# Altium footprint library PyESPCar_Z1.PcbLib: 22 footprints (part 1 of 2)
Each footprint in its own frame and in the unit in brackets; x right, y up, seen from the top. Pads: shape width x height; smd on the part's side, far side on the other; paste and mask are expansions set on the pad; w line width, h text height; cw(c..) or ccw(c..) is an arc to the next point about the centre after c.
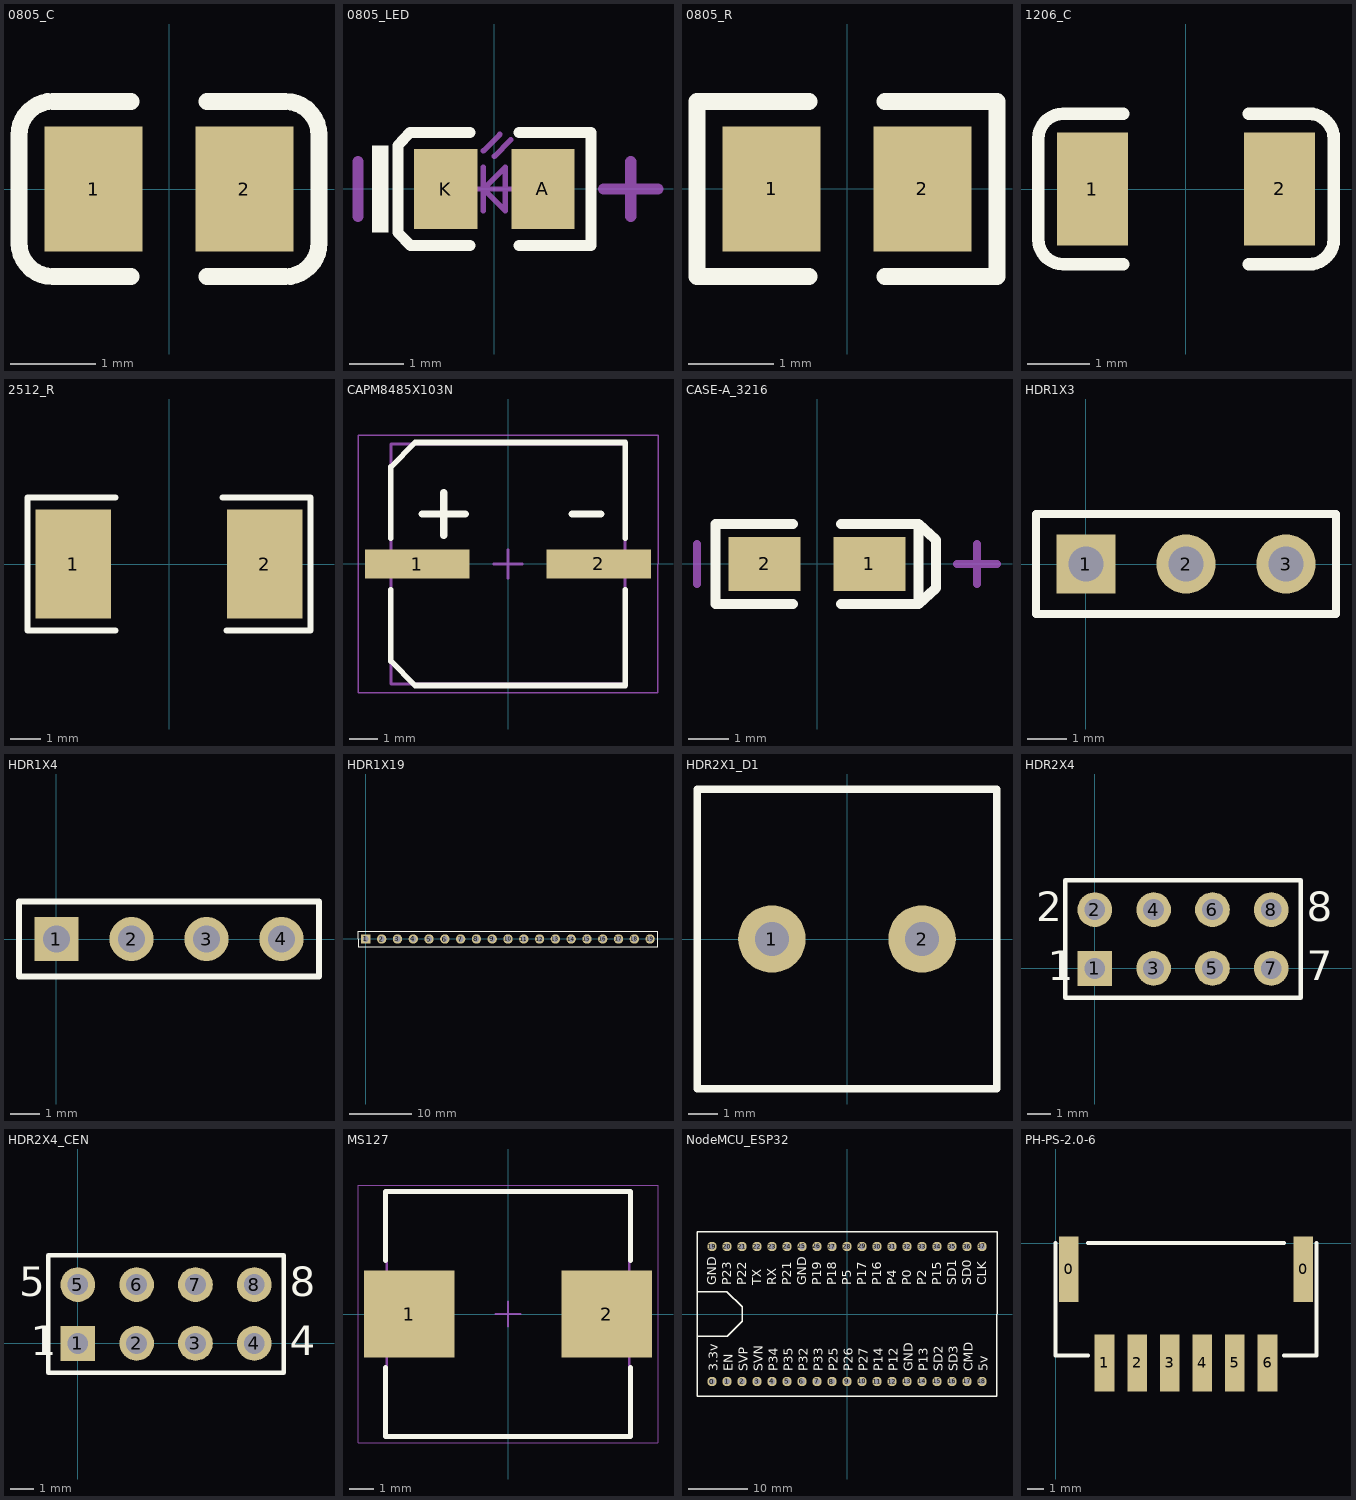
[diagram p0: the footprints below, top view; thin cyan lines are the x and y axes]

## 0805_C [mm]
pads (2):
  rect 1.16x1.47 smd: 1(-0.89,0) 2(0.89,0)
Top Overlay:
  lines w0.2: -0.45,-1.035 -1.37,-1.035 cw(c-1.37,-0.635) -1.77,-0.635 -1.77,0.635 cw(c-1.37,0.635) -1.37,1.035 -0.45,1.035 ; 0.45,-1.035 1.37,-1.035 ccw(c1.37,-0.635) 1.77,-0.635 1.77,0.635 ccw(c1.37,0.635) 1.37,1.035 0.45,1.035
3D body "User Library-0805 SMD Capacitor.STEP": height 0.77, standoff -0.01, extent -0.999,-0.625 1.001,0.625

## 0805_LED [mm]
pads (2):
  rect 1.16x1.47 smd: A(0.89,0) K(-0.89,0)
Top Overlay:
  rectangle: -2.245,-0.8 -1.945,0.8
  lines w0.2: -0.45,-1.035 -1.535,-1.035 -1.77,-0.8 -1.77,0.8 -1.55,1.035 -0.45,1.035 ; 0.45,-1.035 1.77,-1.035 1.77,1.035 0.45,1.035
Mechanical 13:
  lines w0.1: -0.4,0 0.4,0 ; -0.2,-0.4 -0.2,0.4 ; -0.2,0.7 0.1,1 ; 0,0.6 0.3,0.9 ; -0.2,0 0.2,0.4 0.2,-0.4 -0.2,0
Mechanical 15:
  lines w0.203: -2.5,-0.5 -2.5,0.5 ; 2,0 3,0 ; 2.5,-0.5 2.5,0.5
3D body "User Library-led_0805.step": height 1.1, standoff 0, extent -1.01,-0.625 1.01,0.625

## 0805_R [mm]
pads (2):
  rect 1.16x1.47 smd: 1(-0.89,0) 2(0.89,0)
Top Overlay:
  lines w0.2: -0.45,-1.035 -1.77,-1.035 -1.77,1.035 -0.45,1.035 ; 0.45,-1.035 1.77,-1.035 1.77,1.035 0.45,1.035
3D body "User Library-R_0805.STEP": height 0.49, standoff -0.01, extent -0.997,-0.625 1.003,0.625

## 1206_C [mm]
pads (2):
  rect 1.13x1.8 smd: 1(-1.49,0) 2(1.49,0)
Top Overlay:
  lines w0.2: -1,-1.2 -1.955,-1.2 cw(c-1.955,-0.8) -2.355,-0.8 -2.355,0.8 cw(c-1.955,0.8) -1.955,1.2 -1,1.2 ; 1,-1.2 1.955,-1.2 ccw(c1.955,-0.8) 2.355,-0.8 2.355,0.8 ccw(c1.955,0.8) 1.955,1.2 1,1.2
3D body "C1206.STEP": height 1, standoff 0, extent -1.602,-0.813 1.598,0.787

## 2512_R [mm]
pads (2):
  rect 2.5x3.6 smd: 1(-3.175,0) 2(3.175,0)
Top Overlay:
  lines w0.2: -1.778,-2.2 -4.699,-2.2 -4.699,2.2 -1.778,2.2 ; 1.778,2.2 4.699,2.2 4.699,-2.2 1.905,-2.2
3D body: height 0.9, standoff 0, extent 2.159,0.635 2.667,1.524
3D body: height 0.9, standoff 0, extent 2.159,-1.524 2.667,-0.635
3D body: height 0.9, standoff 0, extent -2.54,-1.524 -2.032,-0.635
3D body: height 0.9, standoff 0, extent -2.54,0.635 -2.032,1.524
3D body: height 1.2, standoff 0, extent -3.175,-1.651 3.175,1.651

## CAPM8485X103N [mm]
pads (2):
  rect 3.65x1 smd: 1(-3.175,0) 2(3.175,0)
Top Overlay:
  lines w0.2: -4.1,-0.9 -4.1,-3.4 -3.25,-4.25 4.1,-4.25 4.1,-0.9 ; -4.1,0.9 -4.1,3.4 -3.25,4.25 -2.25,4.25 4.1,4.25 4.1,0.9
  lines w0.254: -3,1.75 -1.5,1.75 ; -2.25,1 -2.25,2.5 ; 2.25,1.75 3.25,1.75
Mechanical 13:
  lines w0.1: -4.1,-4.2 4.1,-4.2 4.1,4.2 -4.1,4.2 -4.1,-4.2
Mechanical 15:
  lines w0.05: -5.25,-4.5 5.25,-4.5 5.25,4.5 -5.25,4.5 -5.25,-4.5
  lines w0.1: -0.5,0 0.5,0 ; 0,-0.5 0,0.5
3D body: height 10.3, standoff 0, extent -4.1,-4.2 4.1,4.2

## CASE-A_3216 [mm]
pads (2):
  rect 1.8x1.35 smd: 1(1.31,0) 2(-1.31,0)
Top Overlay:
  lines w0.254: -0.6,-1.002 -2.537,-1.002 -2.537,1.002 -0.6,1.002 ; 0.6,-1.002 2.537,-1.002 ; 0.6,1.002 2.537,1.002 ; 2.537,-1.002 2.973,-0.6 2.973,0.6 2.537,1.002 ; 2.537,-1.002 2.537,1.002
Mechanical 15:
  lines w0.203: -3,-0.5 -3,0.5 ; 3.5,0 4.5,0 ; 4,-0.5 4,0.5
3D body "User Library-AVX_ACASE.STEP": height 1.71, standoff 0, extent -1.7,-0.84 1.7,0.84

## HDR1X3 [mm]
pads (3):
  rect 1.5x1.5 hole 0.9: 1(0,0)
  round 1.5 hole 0.9: 2(2.54,0) 3(5.08,0)
Top Overlay:
  lines w0.2: -1.27,-1.27 6.35,-1.27 6.35,1.27 -1.27,1.27 -1.27,-1.27

## HDR1X4 [mm]
pads (4):
  rect 1.5x1.5 hole 0.9: 1(0,0)
  round 1.5 hole 0.9: 2(2.54,0) 3(5.08,0) 4(7.62,0)
Top Overlay:
  lines w0.2: -1.27,-1.27 -1.27,1.27 8.89,1.27 8.89,-1.27 -1.27,-1.27

## HDR1X19 [mm]
pads (19):
  rect 1.5x1.5 hole 0.9: 1(0,0)
  round 1.5 hole 0.9: 2(2.54,0) 3(5.08,0) 4(7.62,0) 5(10.16,0) 6(12.7,0) 7(15.24,0) 8(17.78,0) 9(20.32,0) 10(22.86,0) 11(25.4,0) 12(27.94,0) 13(30.48,0) 14(33.02,0) 15(35.56,0) 16(38.1,0) 17(40.64,0) 18(43.18,0) 19(45.72,0)
Top Overlay:
  lines w0.2: 37.465,1.27 37.677,1.27 ; -1.27,-1.27 46.99,-1.27 46.99,1.27 0.635,1.27 -1.27,1.27 -1.27,-1.27

## HDR2X1_D1 [mil]
pads (2):
  round 90 hole 45: 1(-100,0) 2(100,0)
Top Overlay:
  lines w10: -200,-200 200,-200 200,200 -200,200 -200,-200

## HDR2X4 [mm]
pads (8):
  rect 1.5x1.5 hole 0.9: 1(0,0)
  round 1.5 hole 0.9: 2(0,2.54) 3(2.54,0) 4(2.54,2.54) 5(5.08,0) 6(5.08,2.54) 7(7.62,0) 8(7.62,2.54)
Top Overlay:
  lines w0.2: -1.27,-1.27 8.89,-1.27 8.89,3.81 -1.27,3.81 -1.27,-1.27
  text "2" at -2.54,2.032 h1.27
  text "1" at -2.032,-0.508 h1.27
  text "7" at 9.144,-0.508 h1.27
  text "8" at 9.144,2.032 h1.27

## HDR2X4_CEN [mm]
pads (8):
  rect 1.5x1.5 hole 0.9: 1(0,0)
  round 1.5 hole 0.9: 2(2.54,0) 3(5.08,0) 4(7.62,0) 5(0,2.54) 6(2.54,2.54) 7(5.08,2.54) 8(7.62,2.54)
Top Overlay:
  lines w0.2: -1.27,-1.27 8.89,-1.27 8.89,3.81 -1.27,3.81 -1.27,-1.27
  text "5" at -2.54,2.032 h1.27
  text "1" at -2.032,-0.508 h1.27
  text "4" at 9.144,-0.508 h1.27
  text "8" at 9.144,2.032 h1.27

## MS127 [mm]
pads (2):
  rect 3.65x3.5 smd: 1(-3.975,0) 2(3.975,0)
Top Overlay:
  lines w0.2: -4.95,-2.15 -4.95,-4.95 4.95,-4.95 4.95,-2.15 ; -4.95,2.15 -4.95,4.95 4.95,4.95 4.95,2.15
Mechanical 13:
  lines w0.1: -4.9,-4.9 4.9,-4.9 4.9,4.9 -4.9,4.9 -4.9,-4.9
Mechanical 15:
  lines w0.05: -6.05,-5.2 6.05,-5.2 6.05,5.2 -6.05,5.2 -6.05,-5.2
  lines w0.1: -0.5,0 0.5,0 ; 0,-0.5 0,0.5
3D body: height 10.3, standoff 0, extent -4.9,-4.9 4.9,4.9

## NodeMCU_ESP32 [mm]
pads (38):
  round 1.6 hole 1: 0(-22.86,-11.43) 1(-20.32,-11.43) 2(-17.78,-11.43) 3(-15.24,-11.43) 4(-12.7,-11.43) 5(-10.16,-11.43) 6(-7.62,-11.43) 7(-5.08,-11.43) 8(-2.54,-11.43) 9(0,-11.43) 10(2.54,-11.43) 11(5.08,-11.43) 12(7.62,-11.43) 13(10.16,-11.43) 14(12.7,-11.43) 15(15.24,-11.43) 16(17.78,-11.43) 17(20.32,-11.43) 18(22.86,-11.43) 19(-22.86,11.43) 20(-20.32,11.43) 21(-17.78,11.43) 22(-15.24,11.43) 23(-12.7,11.43) 24(-10.16,11.43) 25(-7.62,11.43) 26(-5.08,11.43) 27(-2.54,11.43) 28(0,11.43) 29(2.54,11.43) 30(5.08,11.43) 31(7.62,11.43) 32(10.16,11.43) 33(12.7,11.43) 34(15.24,11.43) 35(17.78,11.43) 36(20.32,11.43) 37(22.86,11.43)
Top Overlay:
  lines w0.254: -25.4,-3.81 -20.32,-3.81 -17.78,-1.27 -17.78,1.27 -20.32,3.81 -25.4,3.81 ; -25.4,-13.97 25.4,-13.97 25.4,13.97 -25.4,13.97 -25.4,-13.97
  text "CLK" at 23.61,4.86 h1.52
  text "SD0" at 21.07,4.86 h1.52
  text "SD1" at 18.53,4.86 h1.52
  text "P15" at 15.99,4.86 h1.52
  text "P2" at 13.45,4.86 h1.52
  text "P0" at 10.91,4.86 h1.52
  text "P4" at 8.37,4.86 h1.52
  text "P16" at 5.83,4.86 h1.52
  text "P17" at 3.29,4.86 h1.52
  text "P5" at 0.75,4.86 h1.52
  text "P18" at -1.79,4.86 h1.52
  text "P19" at -4.33,4.86 h1.52
  text "GND" at -6.87,4.86 h1.52
  text "P21" at -9.41,4.86 h1.52
  text "RX" at -11.95,4.86 h1.52
  text "TX" at -14.49,4.86 h1.52
  text "P22" at -17.03,4.86 h1.52
  text "P23" at -19.57,4.86 h1.52
  text "GND" at -22.11,4.86 h1.52
  text "EN" at -19.32,-9.69 h1.52
  text "3.3v" at -21.86,-9.69 h1.52
  text "SVP" at -16.78,-9.69 h1.52
  text "SVN" at -14.24,-9.69 h1.52
  text "P34" at -11.7,-9.69 h1.52
  text "P35" at -9.16,-9.69 h1.52
  text "P32" at -6.62,-9.69 h1.52
  text "P33" at -4.08,-9.69 h1.52
  text "P25" at -1.54,-9.69 h1.52
  text "P26" at 1,-9.69 h1.52
  text "P27" at 3.54,-9.69 h1.52
  text "P14" at 6.08,-9.69 h1.52
  text "P12" at 8.62,-9.69 h1.52
  text "GND" at 11.16,-9.69 h1.52
  text "P13" at 13.7,-9.69 h1.52
  text "SD2" at 16.24,-9.69 h1.52
  text "SD3" at 18.78,-9.69 h1.52
  text "CMD" at 21.32,-9.69 h1.52
  text "5v" at 23.86,-9.69 h1.52

## PH-PS-2.0-6 [mm]
pads (8):
  rect 1.2x4 smd: 0(0.8,-1.6) 0(15.2,-1.6)
  rect 1.2x3.5 smd: 1(3,-7.35) 2(5,-7.35) 3(7,-7.35) 4(9,-7.35) 5(11,-7.35) 6(13,-7.35)
Top Overlay:
  lines w0.254: 0,0 0,-6.9 2,-6.9 ; 2,0 14,0 ; 14,-6.9 16,-6.9 16,0